# Altium schematic symbol library TPS54386.SchLib: 1 symbol
Pins are listed as number, name and electrical type; pins without a type are passive.

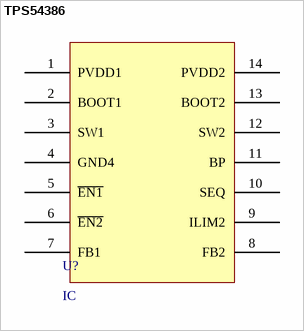
[diagram p0: symbol TPS54386]

## TPS54386
designator U?, comment IC
TPS54386; Vin: 4.5V; Vin max: 28V; Vout: 0.8V; Vout max: 25.2V; Dòng đầu ra: 3A; Tần số chuyển dổi: 600kHz; Phạm vi nhiệt độ: -40 C đến 125 C; ComponentLink1Description: Datasheet; ComponentLink1URL: https://www.ti.com/lit/ds/symlink/tps54386.pdf?ts=1689643056217&ref_url=https%253A%252F%252Fwww.ti.com%252Fgeneral%252Fdocs%252Fsuppproductinfo.tsp%253FdistId%253D10%2526gotoUrl%253Dhttps%253A%252F%252Fwww.ti.com%252Flit%252Fgpn%252Ftps54386
footprint TPS54386 (TSOP, 14-Leads, Body 5.00x4.40mm, Pitch 0.65mm, Thermal Pad 2.31x2.46mm, IPC Medium Density)
pins: 1 PVDD1 (power), 2 BOOT1 (power), 3 SW1 (power), 4 GND4 (power), 5 ~{EN1} (power), 6 ~{EN2} (power), 7 FB1 (power), 8 FB2 (power), 9 ILIM2 (power), 10 SEQ (power), 11 BP (power), 12 SW2 (power), 13 BOOT2 (power), 14 PVDD2 (power)